# Altium footprint library Capacitor.PcbLib: 54 footprints (part 4 of 4)
Each footprint in its own frame and in the unit in brackets; x right, y up, seen from the top. Pads: shape width x height; smd on the part's side, far side on the other; paste and mask are expansions set on the pad; w line width, h text height; cw(c..) or ccw(c..) is an arc to the next point about the centre after c.
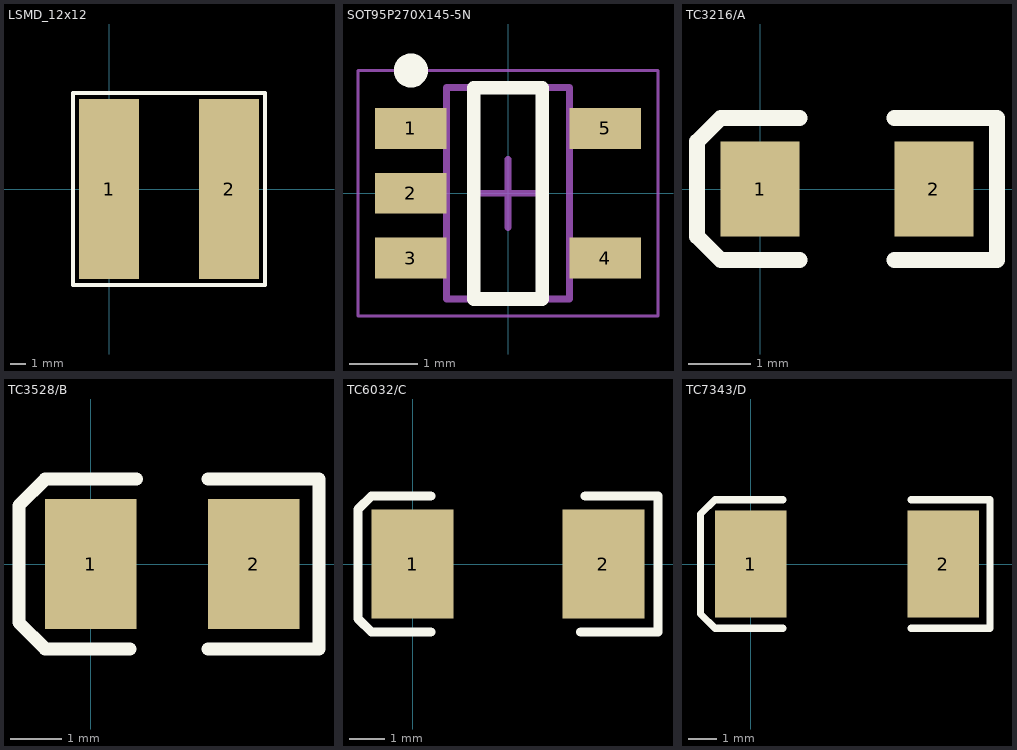
[diagram p3: the footprints below, top view; thin cyan lines are the x and y axes]

## LSMD_12x12 [mm]
pads (2):
  rect 4x12 smd: 1(0,0) 2(8,0)
Top Overlay:
  lines w0.254: -2.4,-6.4 -2.4,6.4 10.4,6.4 10.4,-6.4 -2.4,-6.4
3D body: height 8, standoff 0.2, extent -2.388,-6.401 10.414,6.401

## SOT95P270X145-5N [mm] "SOT23, 5-Leads, Body 2.90x2.70mm, Pitch 0.95mm, IPC Medium Density"
height 1.45
pads (5):
  rect 1.05x0.6 smd: 1(-1.425,0.95) 2(-1.425,0) 3(-1.425,-0.95) 4(1.425,-0.95) 5(1.425,0.95)
Top Overlay:
  circle w0.25: c-1.425,1.8 r0.125
  lines w0.2: -0.5,-1.55 -0.5,1.55 0.5,1.55 0.5,-1.55 -0.5,-1.55
Mechanical 13:
  lines w0.1: -0.9,-1.55 0.9,-1.55 0.9,1.55 -0.9,1.55 -0.9,-1.55
Mechanical 15:
  lines w0.05: -2.2,-1.8 2.2,-1.8 2.2,1.8 -2.2,1.8 -2.2,-1.8
  lines w0.1: -0.5,0 0.5,0 ; 0,-0.5 0,0.5
3D body: height 1.45, standoff 0.15, extent -0.9,-1.55 0.9,1.55

## TC3216/A [mil]
pads (2):
  rect 50x60 smd: 1(0,0) 2(110,0)
Top Overlay:
  lines w10: 25,-45 -25,-45 -40,-30 -40,30 -25,45 25,45 ; 85,-45 150,-45 150,45 85,45
3D body "TC3216-A.STEP": height 62.99, standoff 0, extent -7.99,-32.99 117.99,30

## TC3528/B [mil]
pads (2):
  rect 70x100 smd: 1(0,0) 2(125,0)
Top Overlay:
  lines w10: 30,-65 -35,-65 -55,-45 -55,45 -35,65 35,65 ; 90,-65 175,-65 175,65 90,65
3D body "TC3528-B.STEP": height 74.8, standoff 0, extent -3.9,-55 133.9,55.24

## TC6032/C [mil]
pads (2):
  rect 90x120 smd: 1(0,0) 2(210,0)
Top Overlay:
  lines w10: 20,-75 -45,-75 -60,-60 -60,60 -45,75 20,75 ; 185,-75 270,-75 270,75 190,75
3D body "TC6032-C.STEP": height 102.36, standoff 0, extent -15,-60 221.22,65.98

## TC7343/D [mil]
pads (2):
  rect 100x150 smd: 1(0,0) 2(270,0)
Top Overlay:
  lines w10: 45,-90 -50,-90 -70,-70 -70,70 -50,90 45,90 ; 225,-90 335,-90 335,90 225,90
3D body "TC7343-D.STEP": height 114.17, standoff 0, extent -8.7,-84.29 278.7,85